# EAGLE library part EC12PLRGB (library Eagle3D-Encoder)
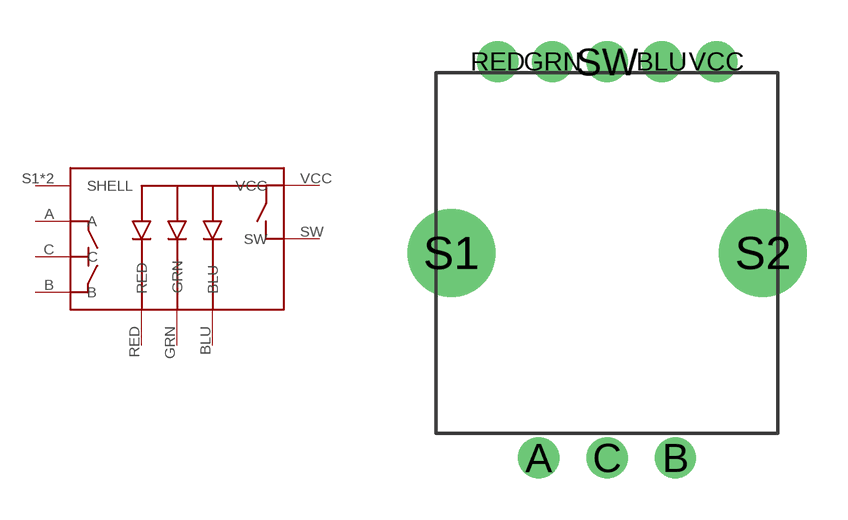
[diagram p1: symbol with the pads of TOP_UN; footprint TOP_UN]

Designator prefix -

## EC12PLRGB  [TOP_UN]
A  A
B  B
BLU  BLU
C  C
GRN  GRN
RED  RED
S1  SHELL
S2  SHELL
SW  SW
VCC  VCC

## Footprint TOP_UN (pad centres in mm)
drill 1: A -2.5,-7.5; B 2.5,-7.5; BLU 2,7; C 0,-7.5; GRN -2,7; RED -4,7; SW 0,7; VCC 4,7
drill 2.2: S1 -5.7,0; S2 5.7,0